# EAGLE library part SMT-SWITCH (library BadgeParts)
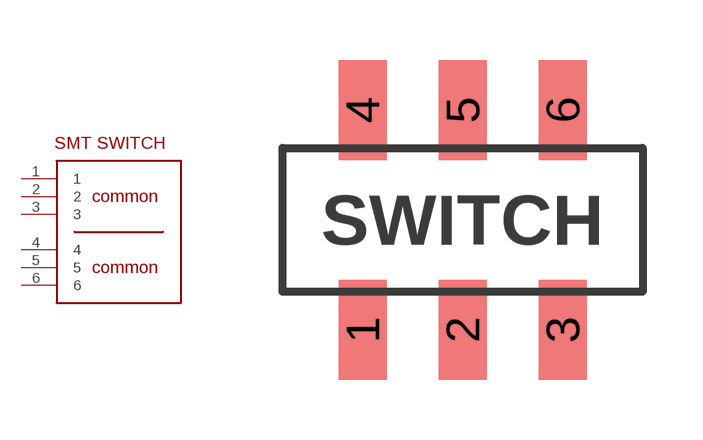
[diagram p7: symbol with the pads of SMT-SWITCH; footprint SMT-SWITCH]

Designator prefix -

## SMT-SWITCH  [SMT-SWITCH]
1  1
2  2
3  3
4  4
5  5
6  6

## Footprint SMT-SWITCH (pad centres in mm)
DPDT swith JS203011SCQN
smd 1.2 x 2.5: 1 -2.5,-2.75; 2 0,-2.75; 3 2.5,-2.75; 4 -2.5,2.75; 5 0,2.75; 6 2.5,2.75